# EAGLE library part LPH-7366 (library lph-7366)
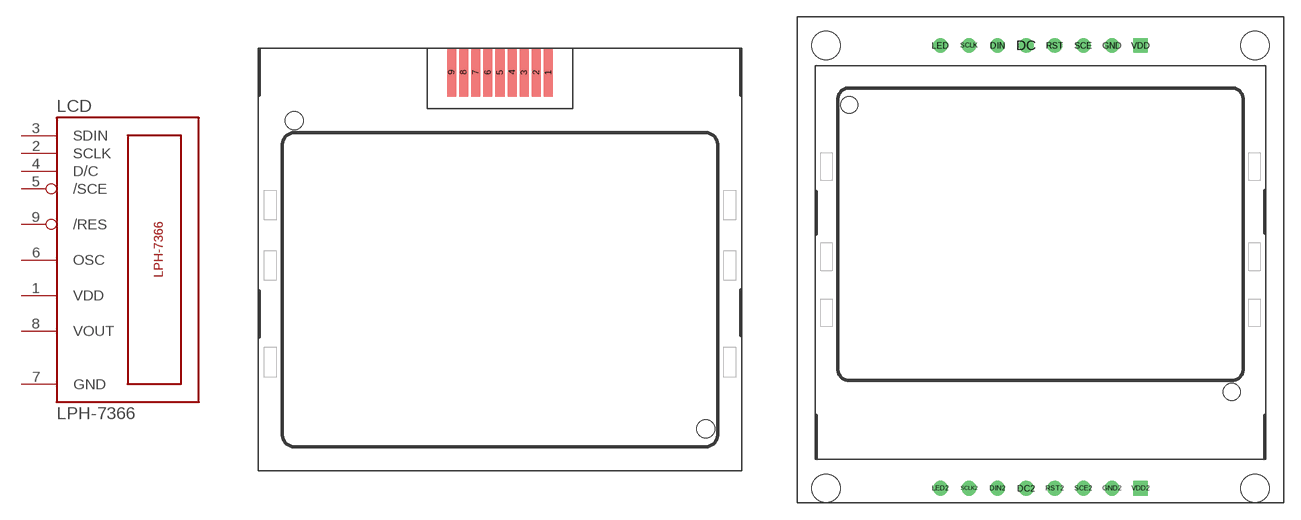
[diagram p0: symbol with the pads of LPH-7366; footprints LPH-7366, CHINA_N5110]

Designator prefix LCD

## LPH-7366  [LPH-7366]
1  VDD  pwr
2  SCLK  in
3  SDIN  in
4  D/C  in
5  /SCE  in
6  OSC  pas
7  GND  pwr
8  VOUT  pas
9  /RES  in

## LPH-7366MONTIERT  [CHINA_N5110]

## Footprint LPH-7366 (pad centres in mm)
smd 0.75 x 4: 1 4,17; 2 3,17; 3 2,17; 4 1,17; 5 0,17; 6 -1,17; 7 -2,17; 8 -3,17; 9 -4,17
hole 1.5 at -17,13
hole 1.5 at 17,-12.5

## Footprint CHINA_N5110 (pad centres in mm)
Package für das Display, das auf einem Trägerboard montiert ist
drill 0.8: DC -1.27,19.05; DC2 -1.27,-20.32; DIN -3.81,19.05; DIN2 -3.81,-20.32; GND 6.35,19.05; GND2 6.35,-20.32; LED -8.89,19.05; LED2 -8.89,-20.32; RST 1.27,19.05; RST2 1.27,-20.32; SCE 3.81,19.05; SCE2 3.81,-20.32; SCLK -6.35,19.05; SCLK2 -6.35,-20.32
drill 0.8 square: VDD 8.89,19.05; VDD2 8.89,-20.32
hole 1.5 at 17,-11.73
hole 1.5 at -17,13.77
hole 2.5 at -19.05,-20.32
hole 2.5 at 19.05,19.05
hole 2.5 at 19.05,-20.32
hole 2.5 at -19.05,19.05